# Altium footprint library pinhead.PCBLIB: 100 footprints (part 2 of 7)
Each footprint in its own frame and in the unit in brackets; x right, y up, seen from the top. Pads: shape width x height; smd on the part's side, far side on the other; paste and mask are expansions set on the pad; w line width, h text height; cw(c..) or ccw(c..) is an arc to the next point about the centre after c.
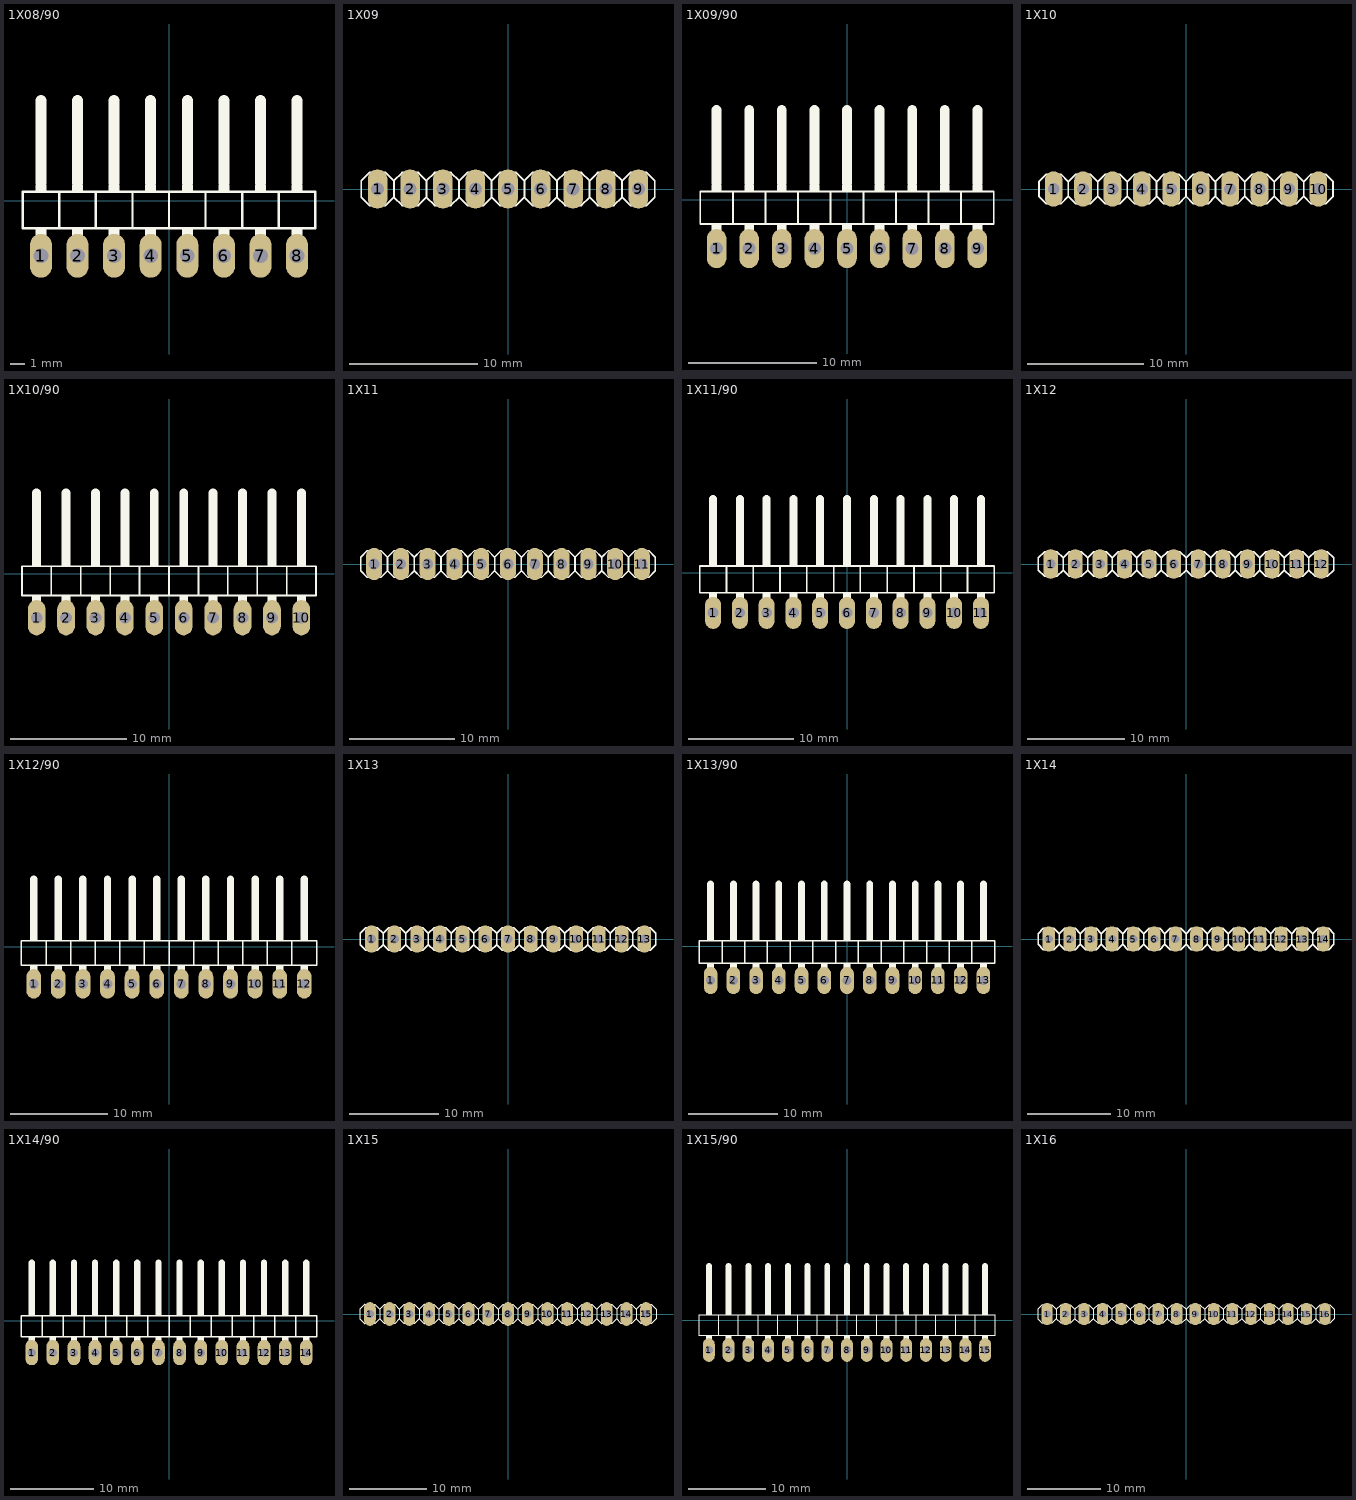
[diagram p1: the footprints below, top view; thin cyan lines are the x and y axes]

## 1X08/90 [mil]
pads (8):
  oval 60x120 hole 40: 1(-350,-150) 2(-250,-150) 3(-150,-150) 4(-50,-150) 5(50,-150) 6(150,-150) 7(250,-150) 8(350,-150)
Top Overlay:
  rectangle: -365,25 -335,45
  rectangle: -265,25 -235,45
  rectangle: -165,25 -135,45
  rectangle: -65,25 -35,45
  rectangle: 35,25 65,45
  rectangle: 135,25 165,45
  rectangle: 235,25 265,45
  rectangle: 335,25 365,45
  rectangle: -365,-115 -335,-75
  rectangle: -265,-115 -235,-75
  rectangle: -165,-115 -135,-75
  rectangle: -65,-115 -35,-75
  rectangle: 35,-115 65,-75
  rectangle: 135,-115 165,-75
  rectangle: 235,-115 265,-75
  rectangle: 335,-115 365,-75
  lines w6: -300,-75 -400,-75 -400,25 -300,25 ; -300,-75 -300,25 ; -300,-75 -200,-75 ; -300,25 -200,25 ; -200,-75 -200,25 ; -200,-75 -100,-75 ; -200,25 -100,25 ; -100,-75 -100,25 ; -100,-75 0,-75 ; -100,25 0,25 ; 0,-75 0,25 ; 0,-75 100,-75 ; 0,25 100,25 ; 100,-75 100,25 ; 100,-75 200,-75 ; 100,25 200,25 ; 200,-75 200,25 ; 200,-75 300,-75 ; 200,25 300,25 ; 300,-75 300,25 ; 300,-75 400,-75 400,25 300,25
  lines w30: -350,50 -350,275 ; -250,50 -250,275 ; -150,50 -150,275 ; -50,50 -50,275 ; 50,50 50,275 ; 150,50 150,275 ; 250,50 250,275 ; 350,50 350,275

## 1X09 [mil]
pads (9):
  oval 60x120 hole 40: 1(-400,0) 2(-300,0) 3(-200,0) 4(-100,0) 5(0,0) 6(100,0) 7(200,0) 8(300,0) 9(400,0)
Top Overlay:
  lines w6: -350,-25 -350,25 ; -350,-25 -375,-50 -425,-50 -450,-25 -450,25 -425,50 -375,50 -350,25 ; -350,-25 -325,-50 -275,-50 -250,-25 ; -350,25 -325,50 -275,50 -250,25 ; -250,-25 -225,-50 -175,-50 -150,-25 ; -250,-25 -250,25 ; -250,25 -225,50 -175,50 -150,25 ; -150,-25 -150,25 ; -150,-25 -125,-50 -75,-50 -50,-25 ; -150,25 -125,50 -75,50 -50,25 ; -50,-25 -50,25 ; -50,-25 -25,-50 25,-50 50,-25 ; -50,25 -25,50 25,50 50,25 ; 50,-25 75,-50 125,-50 150,-25 ; 50,-25 50,25 ; 50,25 75,50 125,50 150,25 ; 150,-25 150,25 ; 150,-25 175,-50 225,-50 250,-25 ; 150,25 175,50 225,50 250,25 ; 250,-25 250,25 ; 250,-25 275,-50 325,-50 350,-25 ; 250,25 275,50 325,50 350,25 ; 350,-25 350,25 ; 350,-25 375,-50 425,-50 450,-25 450,25 425,50 375,50 350,25
Mechanical 16:
  rectangle: 290,-10 310,10
  rectangle: 190,-10 210,10
  rectangle: 90,-10 110,10
  rectangle: -10,-10 10,10
  rectangle: -110,-10 -90,10
  rectangle: -210,-10 -190,10
  rectangle: -310,-10 -290,10
  rectangle: -410,-10 -390,10
  rectangle: 390,-10 410,10

## 1X09/90 [mil]
pads (9):
  oval 60x120 hole 40: 1(-400,-150) 2(-300,-150) 3(-200,-150) 4(-100,-150) 5(0,-150) 6(100,-150) 7(200,-150) 8(300,-150) 9(400,-150)
Top Overlay:
  rectangle: -415,25 -385,45
  rectangle: -315,25 -285,45
  rectangle: -215,25 -185,45
  rectangle: -115,25 -85,45
  rectangle: -15,25 15,45
  rectangle: 85,25 115,45
  rectangle: 185,25 215,45
  rectangle: 285,25 315,45
  rectangle: 385,25 415,45
  rectangle: -415,-115 -385,-75
  rectangle: -315,-115 -285,-75
  rectangle: -215,-115 -185,-75
  rectangle: -115,-115 -85,-75
  rectangle: -15,-115 15,-75
  rectangle: 85,-115 115,-75
  rectangle: 185,-115 215,-75
  rectangle: 285,-115 315,-75
  rectangle: 385,-115 415,-75
  lines w6: -350,-75 -450,-75 -450,25 -350,25 ; -350,-75 -350,25 ; -350,-75 -250,-75 ; -350,25 -250,25 ; -250,-75 -250,25 ; -250,-75 -150,-75 ; -250,25 -150,25 ; -150,-75 -150,25 ; -150,-75 -50,-75 ; -150,25 -50,25 ; -50,-75 -50,25 ; -50,-75 50,-75 ; -50,25 50,25 ; 50,-75 50,25 ; 50,-75 150,-75 ; 50,25 150,25 ; 150,-75 150,25 ; 150,-75 250,-75 ; 150,25 250,25 ; 250,-75 250,25 ; 250,-75 350,-75 ; 250,25 350,25 ; 350,-75 350,25 ; 350,-75 450,-75 450,25 350,25
  lines w30: -400,50 -400,275 ; -300,50 -300,275 ; -200,50 -200,275 ; -100,50 -100,275 ; 0,50 0,275 ; 100,50 100,275 ; 200,50 200,275 ; 300,50 300,275 ; 400,50 400,275

## 1X10 [mil]
pads (10):
  oval 60x120 hole 40: 1(-450,0) 2(-350,0) 3(-250,0) 4(-150,0) 5(-50,0) 6(50,0) 7(150,0) 8(250,0) 9(350,0) 10(450,0)
Top Overlay:
  lines w6: -400,-25 -400,25 ; -400,-25 -425,-50 -475,-50 -500,-25 -500,25 -475,50 -425,50 -400,25 ; -400,-25 -375,-50 -325,-50 -300,-25 ; -400,25 -375,50 -325,50 -300,25 ; -300,-25 -275,-50 -225,-50 -200,-25 ; -300,-25 -300,25 ; -300,25 -275,50 -225,50 -200,25 ; -200,-25 -200,25 ; -200,-25 -175,-50 -125,-50 -100,-25 ; -200,25 -175,50 -125,50 -100,25 ; -100,-25 -100,25 ; -100,-25 -75,-50 -25,-50 0,-25 ; -100,25 -75,50 -25,50 0,25 ; 0,-25 25,-50 75,-50 100,-25 ; 0,-25 0,25 ; 0,25 25,50 75,50 100,25 ; 100,-25 100,25 ; 100,-25 125,-50 175,-50 200,-25 ; 100,25 125,50 175,50 200,25 ; 200,-25 200,25 ; 200,-25 225,-50 275,-50 300,-25 ; 200,25 225,50 275,50 300,25 ; 300,-25 325,-50 375,-50 400,-25 ; 300,-25 300,25 ; 300,25 325,50 375,50 400,25 ; 400,-25 400,25 ; 400,-25 425,-50 475,-50 500,-25 500,25 475,50 425,50 400,25
Mechanical 16:
  rectangle: 340,-10 360,10
  rectangle: 240,-10 260,10
  rectangle: 140,-10 160,10
  rectangle: 40,-10 60,10
  rectangle: -60,-10 -40,10
  rectangle: -160,-10 -140,10
  rectangle: -260,-10 -240,10
  rectangle: -360,-10 -340,10
  rectangle: -460,-10 -440,10
  rectangle: 440,-10 460,10

## 1X10/90 [mil]
pads (10):
  oval 60x120 hole 40: 1(-450,-150) 2(-350,-150) 3(-250,-150) 4(-150,-150) 5(-50,-150) 6(50,-150) 7(150,-150) 8(250,-150) 9(350,-150) 10(450,-150)
Top Overlay:
  rectangle: -465,25 -435,45
  rectangle: -365,25 -335,45
  rectangle: -265,25 -235,45
  rectangle: -165,25 -135,45
  rectangle: -65,25 -35,45
  rectangle: 35,25 65,45
  rectangle: 135,25 165,45
  rectangle: 235,25 265,45
  rectangle: 335,25 365,45
  rectangle: 435,25 465,45
  rectangle: -465,-115 -435,-75
  rectangle: -365,-115 -335,-75
  rectangle: -265,-115 -235,-75
  rectangle: -165,-115 -135,-75
  rectangle: -65,-115 -35,-75
  rectangle: 35,-115 65,-75
  rectangle: 135,-115 165,-75
  rectangle: 235,-115 265,-75
  rectangle: 335,-115 365,-75
  rectangle: 435,-115 465,-75
  lines w6: -400,-75 -500,-75 -500,25 -400,25 ; -400,-75 -400,25 ; -400,-75 -300,-75 ; -400,25 -300,25 ; -300,-75 -300,25 ; -300,-75 -200,-75 ; -300,25 -200,25 ; -200,-75 -200,25 ; -200,-75 -100,-75 ; -200,25 -100,25 ; -100,-75 -100,25 ; -100,-75 0,-75 ; -100,25 0,25 ; 0,-75 0,25 ; 0,-75 100,-75 ; 0,25 100,25 ; 100,-75 100,25 ; 100,-75 200,-75 ; 100,25 200,25 ; 200,-75 200,25 ; 200,-75 300,-75 ; 200,25 300,25 ; 300,-75 300,25 ; 300,-75 400,-75 ; 300,25 400,25 ; 400,-75 400,25 ; 400,-75 500,-75 500,25 400,25
  lines w30: -450,50 -450,275 ; -350,50 -350,275 ; -250,50 -250,275 ; -150,50 -150,275 ; -50,50 -50,275 ; 50,50 50,275 ; 150,50 150,275 ; 250,50 250,275 ; 350,50 350,275 ; 450,50 450,275

## 1X11 [mil]
pads (11):
  oval 60x120 hole 40: 1(-500,0) 2(-400,0) 3(-300,0) 4(-200,0) 5(-100,0) 6(0,0) 7(100,0) 8(200,0) 9(300,0) 10(400,0) 11(500,0)
Top Overlay:
  lines w6: -450,-25 -450,25 ; -450,-25 -475,-50 -525,-50 -550,-25 -550,25 -525,50 -475,50 -450,25 ; -450,-25 -425,-50 -375,-50 -350,-25 ; -450,25 -425,50 -375,50 -350,25 ; -350,-25 -325,-50 -275,-50 -250,-25 ; -350,-25 -350,25 ; -350,25 -325,50 -275,50 -250,25 ; -250,-25 -250,25 ; -250,-25 -225,-50 -175,-50 -150,-25 ; -250,25 -225,50 -175,50 -150,25 ; -150,-25 -150,25 ; -150,-25 -125,-50 -75,-50 -50,-25 ; -150,25 -125,50 -75,50 -50,25 ; -50,-25 -25,-50 25,-50 50,-25 ; -50,-25 -50,25 ; -50,25 -25,50 25,50 50,25 ; 50,-25 50,25 ; 50,-25 75,-50 125,-50 150,-25 ; 50,25 75,50 125,50 150,25 ; 150,-25 150,25 ; 150,-25 175,-50 225,-50 250,-25 ; 150,25 175,50 225,50 250,25 ; 250,-25 275,-50 325,-50 350,-25 ; 250,-25 250,25 ; 250,25 275,50 325,50 350,25 ; 350,-25 350,25 ; 350,-25 375,-50 425,-50 450,-25 ; 350,25 375,50 425,50 450,25 ; 450,-25 450,25 ; 450,-25 475,-50 525,-50 550,-25 550,25 525,50 475,50 450,25
Mechanical 16:
  rectangle: 390,-10 410,10
  rectangle: 290,-10 310,10
  rectangle: 190,-10 210,10
  rectangle: 90,-10 110,10
  rectangle: -10,-10 10,10
  rectangle: -110,-10 -90,10
  rectangle: -210,-10 -190,10
  rectangle: -310,-10 -290,10
  rectangle: -410,-10 -390,10
  rectangle: -510,-10 -490,10
  rectangle: 490,-10 510,10

## 1X11/90 [mil]
pads (11):
  oval 60x120 hole 40: 1(-500,-150) 2(-400,-150) 3(-300,-150) 4(-200,-150) 5(-100,-150) 6(0,-150) 7(100,-150) 8(200,-150) 9(300,-150) 10(400,-150) 11(500,-150)
Top Overlay:
  rectangle: -515,25 -485,45
  rectangle: -415,25 -385,45
  rectangle: -315,25 -285,45
  rectangle: -215,25 -185,45
  rectangle: -115,25 -85,45
  rectangle: -15,25 15,45
  rectangle: 85,25 115,45
  rectangle: 185,25 215,45
  rectangle: 285,25 315,45
  rectangle: 385,25 415,45
  rectangle: 485,25 515,45
  rectangle: -515,-115 -485,-75
  rectangle: -415,-115 -385,-75
  rectangle: -315,-115 -285,-75
  rectangle: -215,-115 -185,-75
  rectangle: -115,-115 -85,-75
  rectangle: -15,-115 15,-75
  rectangle: 85,-115 115,-75
  rectangle: 185,-115 215,-75
  rectangle: 285,-115 315,-75
  rectangle: 385,-115 415,-75
  rectangle: 485,-115 515,-75
  lines w6: -450,-75 -550,-75 -550,25 -450,25 ; -450,-75 -450,25 ; -450,-75 -350,-75 ; -450,25 -350,25 ; -350,-75 -350,25 ; -350,-75 -250,-75 ; -350,25 -250,25 ; -250,-75 -250,25 ; -250,-75 -150,-75 ; -250,25 -150,25 ; -150,-75 -150,25 ; -150,-75 -50,-75 ; -150,25 -50,25 ; -50,-75 -50,25 ; -50,-75 50,-75 ; -50,25 50,25 ; 50,-75 50,25 ; 50,-75 150,-75 ; 50,25 150,25 ; 150,-75 150,25 ; 150,-75 250,-75 ; 150,25 250,25 ; 250,-75 250,25 ; 250,-75 350,-75 ; 250,25 350,25 ; 350,-75 350,25 ; 350,-75 450,-75 ; 350,25 450,25 ; 450,-75 450,25 ; 450,-75 550,-75 550,25 450,25
  lines w30: -500,50 -500,275 ; -400,50 -400,275 ; -300,50 -300,275 ; -200,50 -200,275 ; -100,50 -100,275 ; 0,50 0,275 ; 100,50 100,275 ; 200,50 200,275 ; 300,50 300,275 ; 400,50 400,275 ; 500,50 500,275

## 1X12 [mil]
pads (12):
  oval 60x120 hole 40: 1(-550,0) 2(-450,0) 3(-350,0) 4(-250,0) 5(-150,0) 6(-50,0) 7(50,0) 8(150,0) 9(250,0) 10(350,0) 11(450,0) 12(550,0)
Top Overlay:
  lines w6: -500,-25 -500,25 ; -500,-25 -525,-50 -575,-50 -600,-25 -600,25 -575,50 -525,50 -500,25 ; -500,-25 -475,-50 -425,-50 -400,-25 ; -500,25 -475,50 -425,50 -400,25 ; -400,-25 -375,-50 -325,-50 -300,-25 ; -400,-25 -400,25 ; -400,25 -375,50 -325,50 -300,25 ; -300,-25 -300,25 ; -300,-25 -275,-50 -225,-50 -200,-25 ; -300,25 -275,50 -225,50 -200,25 ; -200,-25 -200,25 ; -200,-25 -175,-50 -125,-50 -100,-25 ; -200,25 -175,50 -125,50 -100,25 ; -100,-25 -75,-50 -25,-50 0,-25 ; -100,-25 -100,25 ; -100,25 -75,50 -25,50 0,25 ; 0,-25 0,25 ; 0,-25 25,-50 75,-50 100,-25 ; 0,25 25,50 75,50 100,25 ; 100,-25 100,25 ; 100,-25 125,-50 175,-50 200,-25 ; 100,25 125,50 175,50 200,25 ; 200,-25 225,-50 275,-50 300,-25 ; 200,-25 200,25 ; 200,25 225,50 275,50 300,25 ; 300,-25 300,25 ; 300,-25 325,-50 375,-50 400,-25 ; 300,25 325,50 375,50 400,25 ; 400,-25 400,25 ; 400,-25 425,-50 475,-50 500,-25 ; 400,25 425,50 475,50 500,25 ; 500,-25 500,25 ; 500,-25 525,-50 575,-50 600,-25 600,25 575,50 525,50 500,25
Mechanical 16:
  rectangle: 440,-10 460,10
  rectangle: 340,-10 360,10
  rectangle: 240,-10 260,10
  rectangle: 140,-10 160,10
  rectangle: 40,-10 60,10
  rectangle: -60,-10 -40,10
  rectangle: -160,-10 -140,10
  rectangle: -260,-10 -240,10
  rectangle: -360,-10 -340,10
  rectangle: -460,-10 -440,10
  rectangle: -560,-10 -540,10
  rectangle: 540,-10 560,10

## 1X12/90 [mil]
pads (12):
  oval 60x120 hole 40: 1(-550,-150) 2(-450,-150) 3(-350,-150) 4(-250,-150) 5(-150,-150) 6(-50,-150) 7(50,-150) 8(150,-150) 9(250,-150) 10(350,-150) 11(450,-150) 12(550,-150)
Top Overlay:
  rectangle: -565,25 -535,45
  rectangle: -465,25 -435,45
  rectangle: -365,25 -335,45
  rectangle: -265,25 -235,45
  rectangle: -165,25 -135,45
  rectangle: -65,25 -35,45
  rectangle: 35,25 65,45
  rectangle: 135,25 165,45
  rectangle: 235,25 265,45
  rectangle: 335,25 365,45
  rectangle: 435,25 465,45
  rectangle: 535,25 565,45
  rectangle: -565,-115 -535,-75
  rectangle: -465,-115 -435,-75
  rectangle: -365,-115 -335,-75
  rectangle: -265,-115 -235,-75
  rectangle: -165,-115 -135,-75
  rectangle: -65,-115 -35,-75
  rectangle: 35,-115 65,-75
  rectangle: 135,-115 165,-75
  rectangle: 235,-115 265,-75
  rectangle: 335,-115 365,-75
  rectangle: 435,-115 465,-75
  rectangle: 535,-115 565,-75
  lines w6: -500,-75 -600,-75 -600,25 -500,25 ; -500,-75 -500,25 ; -500,-75 -400,-75 ; -500,25 -400,25 ; -400,-75 -400,25 ; -400,-75 -300,-75 ; -400,25 -300,25 ; -300,-75 -300,25 ; -300,-75 -200,-75 ; -300,25 -200,25 ; -200,-75 -200,25 ; -200,-75 -100,-75 ; -200,25 -100,25 ; -100,-75 -100,25 ; -100,-75 0,-75 ; -100,25 0,25 ; 0,-75 0,25 ; 0,-75 100,-75 ; 0,25 100,25 ; 100,-75 100,25 ; 100,-75 200,-75 ; 100,25 200,25 ; 200,-75 200,25 ; 200,-75 300,-75 ; 200,25 300,25 ; 300,-75 300,25 ; 300,-75 400,-75 ; 300,25 400,25 ; 400,-75 400,25 ; 400,-75 500,-75 ; 400,25 500,25 ; 500,-75 500,25 ; 500,-75 600,-75 600,25 500,25
  lines w30: -550,50 -550,275 ; -450,50 -450,275 ; -350,50 -350,275 ; -250,50 -250,275 ; -150,50 -150,275 ; -50,50 -50,275 ; 50,50 50,275 ; 150,50 150,275 ; 250,50 250,275 ; 350,50 350,275 ; 450,50 450,275 ; 550,50 550,275

## 1X13 [mil]
pads (13):
  oval 60x120 hole 40: 1(-600,0) 2(-500,0) 3(-400,0) 4(-300,0) 5(-200,0) 6(-100,0) 7(0,0) 8(100,0) 9(200,0) 10(300,0) 11(400,0) 12(500,0) 13(600,0)
Top Overlay:
  lines w6: -550,-25 -550,25 ; -550,-25 -575,-50 -625,-50 -650,-25 -650,25 -625,50 -575,50 -550,25 ; -550,-25 -525,-50 -475,-50 -450,-25 ; -550,25 -525,50 -475,50 -450,25 ; -450,-25 -425,-50 -375,-50 -350,-25 ; -450,-25 -450,25 ; -450,25 -425,50 -375,50 -350,25 ; -350,-25 -350,25 ; -350,-25 -325,-50 -275,-50 -250,-25 ; -350,25 -325,50 -275,50 -250,25 ; -250,-25 -250,25 ; -250,-25 -225,-50 -175,-50 -150,-25 ; -250,25 -225,50 -175,50 -150,25 ; -150,-25 -125,-50 -75,-50 -50,-25 ; -150,-25 -150,25 ; -150,25 -125,50 -75,50 -50,25 ; -50,-25 -50,25 ; -50,-25 -25,-50 25,-50 50,-25 ; -50,25 -25,50 25,50 50,25 ; 50,-25 50,25 ; 50,-25 75,-50 125,-50 150,-25 ; 50,25 75,50 125,50 150,25 ; 150,-25 175,-50 225,-50 250,-25 ; 150,-25 150,25 ; 150,25 175,50 225,50 250,25 ; 250,-25 250,25 ; 250,-25 275,-50 325,-50 350,-25 ; 250,25 275,50 325,50 350,25 ; 350,-25 350,25 ; 350,-25 375,-50 425,-50 450,-25 ; 350,25 375,50 425,50 450,25 ; 450,-25 475,-50 525,-50 550,-25 ; 450,-25 450,25 ; 450,25 475,50 525,50 550,25 ; 550,-25 550,25 ; 550,-25 575,-50 625,-50 650,-25 650,25 625,50 575,50 550,25
Mechanical 16:
  rectangle: 490,-10 510,10
  rectangle: 390,-10 410,10
  rectangle: 290,-10 310,10
  rectangle: 190,-10 210,10
  rectangle: 90,-10 110,10
  rectangle: -10,-10 10,10
  rectangle: -110,-10 -90,10
  rectangle: -210,-10 -190,10
  rectangle: -310,-10 -290,10
  rectangle: -410,-10 -390,10
  rectangle: -510,-10 -490,10
  rectangle: -610,-10 -590,10
  rectangle: 590,-10 610,10

## 1X13/90 [mil]
pads (13):
  oval 60x120 hole 40: 1(-600,-150) 2(-500,-150) 3(-400,-150) 4(-300,-150) 5(-200,-150) 6(-100,-150) 7(0,-150) 8(100,-150) 9(200,-150) 10(300,-150) 11(400,-150) 12(500,-150) 13(600,-150)
Top Overlay:
  rectangle: -615,25 -585,45
  rectangle: -515,25 -485,45
  rectangle: -415,25 -385,45
  rectangle: -315,25 -285,45
  rectangle: -215,25 -185,45
  rectangle: -115,25 -85,45
  rectangle: -15,25 15,45
  rectangle: 85,25 115,45
  rectangle: 185,25 215,45
  rectangle: 285,25 315,45
  rectangle: 385,25 415,45
  rectangle: 485,25 515,45
  rectangle: 585,25 615,45
  rectangle: -615,-115 -585,-75
  rectangle: -515,-115 -485,-75
  rectangle: -415,-115 -385,-75
  rectangle: -315,-115 -285,-75
  rectangle: -215,-115 -185,-75
  rectangle: -115,-115 -85,-75
  rectangle: -15,-115 15,-75
  rectangle: 85,-115 115,-75
  rectangle: 185,-115 215,-75
  rectangle: 285,-115 315,-75
  rectangle: 385,-115 415,-75
  rectangle: 485,-115 515,-75
  rectangle: 585,-115 615,-75
  lines w6: -550,-75 -650,-75 -650,25 -550,25 ; -550,-75 -550,25 ; -550,-75 -450,-75 ; -550,25 -450,25 ; -450,-75 -450,25 ; -450,-75 -350,-75 ; -450,25 -350,25 ; -350,-75 -350,25 ; -350,-75 -250,-75 ; -350,25 -250,25 ; -250,-75 -250,25 ; -250,-75 -150,-75 ; -250,25 -150,25 ; -150,-75 -150,25 ; -150,-75 -50,-75 ; -150,25 -50,25 ; -50,-75 -50,25 ; -50,-75 50,-75 ; -50,25 50,25 ; 50,-75 50,25 ; 50,-75 150,-75 ; 50,25 150,25 ; 150,-75 150,25 ; 150,-75 250,-75 ; 150,25 250,25 ; 250,-75 250,25 ; 250,-75 350,-75 ; 250,25 350,25 ; 350,-75 350,25 ; 350,-75 450,-75 ; 350,25 450,25 ; 450,-75 450,25 ; 450,-75 550,-75 ; 450,25 550,25 ; 550,-75 550,25 ; 550,-75 650,-75 650,25 550,25
  lines w30: -600,50 -600,275 ; -500,50 -500,275 ; -400,50 -400,275 ; -300,50 -300,275 ; -200,50 -200,275 ; -100,50 -100,275 ; 0,50 0,275 ; 100,50 100,275 ; 200,50 200,275 ; 300,50 300,275 ; 400,50 400,275 ; 500,50 500,275 ; 600,50 600,275

## 1X14 [mil]
pads (14):
  oval 60x120 hole 40: 1(-650,0) 2(-550,0) 3(-450,0) 4(-350,0) 5(-250,0) 6(-150,0) 7(-50,0) 8(50,0) 9(150,0) 10(250,0) 11(350,0) 12(450,0) 13(550,0) 14(650,0)
Top Overlay:
  lines w6: -600,-25 -600,25 ; -600,-25 -625,-50 -675,-50 -700,-25 -700,25 -675,50 -625,50 -600,25 ; -600,-25 -575,-50 -525,-50 -500,-25 ; -600,25 -575,50 -525,50 -500,25 ; -500,-25 -475,-50 -425,-50 -400,-25 ; -500,-25 -500,25 ; -500,25 -475,50 -425,50 -400,25 ; -400,-25 -400,25 ; -400,-25 -375,-50 -325,-50 -300,-25 ; -400,25 -375,50 -325,50 -300,25 ; -300,-25 -300,25 ; -300,-25 -275,-50 -225,-50 -200,-25 ; -300,25 -275,50 -225,50 -200,25 ; -200,-25 -175,-50 -125,-50 -100,-25 ; -200,-25 -200,25 ; -200,25 -175,50 -125,50 -100,25 ; -100,-25 -100,25 ; -100,-25 -75,-50 -25,-50 0,-25 ; -100,25 -75,50 -25,50 0,25 ; 0,-25 0,25 ; 0,-25 25,-50 75,-50 100,-25 ; 0,25 25,50 75,50 100,25 ; 100,-25 125,-50 175,-50 200,-25 ; 100,-25 100,25 ; 100,25 125,50 175,50 200,25 ; 200,-25 200,25 ; 200,-25 225,-50 275,-50 300,-25 ; 200,25 225,50 275,50 300,25 ; 300,-25 300,25 ; 300,-25 325,-50 375,-50 400,-25 ; 300,25 325,50 375,50 400,25 ; 400,-25 425,-50 475,-50 500,-25 ; 400,-25 400,25 ; 400,25 425,50 475,50 500,25 ; 500,-25 500,25 ; 500,-25 525,-50 575,-50 600,-25 ; 500,25 525,50 575,50 600,25 ; 600,-25 600,25 ; 600,-25 625,-50 675,-50 700,-25 700,25 675,50 625,50 600,25
Mechanical 16:
  rectangle: 540,-10 560,10
  rectangle: 440,-10 460,10
  rectangle: 340,-10 360,10
  rectangle: 240,-10 260,10
  rectangle: 140,-10 160,10
  rectangle: 40,-10 60,10
  rectangle: -60,-10 -40,10
  rectangle: -160,-10 -140,10
  rectangle: -260,-10 -240,10
  rectangle: -360,-10 -340,10
  rectangle: -460,-10 -440,10
  rectangle: -560,-10 -540,10
  rectangle: -660,-10 -640,10
  rectangle: 640,-10 660,10

## 1X14/90 [mil]
pads (14):
  oval 60x120 hole 40: 1(-650,-150) 2(-550,-150) 3(-450,-150) 4(-350,-150) 5(-250,-150) 6(-150,-150) 7(-50,-150) 8(50,-150) 9(150,-150) 10(250,-150) 11(350,-150) 12(450,-150) 13(550,-150) 14(650,-150)
Top Overlay:
  rectangle: -665,25 -635,45
  rectangle: -565,25 -535,45
  rectangle: -465,25 -435,45
  rectangle: -365,25 -335,45
  rectangle: -265,25 -235,45
  rectangle: -165,25 -135,45
  rectangle: -65,25 -35,45
  rectangle: 35,25 65,45
  rectangle: 135,25 165,45
  rectangle: 235,25 265,45
  rectangle: 335,25 365,45
  rectangle: 435,25 465,45
  rectangle: 535,25 565,45
  rectangle: 635,25 665,45
  rectangle: -665,-115 -635,-75
  rectangle: -565,-115 -535,-75
  rectangle: -465,-115 -435,-75
  rectangle: -365,-115 -335,-75
  rectangle: -265,-115 -235,-75
  rectangle: -165,-115 -135,-75
  rectangle: -65,-115 -35,-75
  rectangle: 35,-115 65,-75
  rectangle: 135,-115 165,-75
  rectangle: 235,-115 265,-75
  rectangle: 335,-115 365,-75
  rectangle: 435,-115 465,-75
  rectangle: 535,-115 565,-75
  rectangle: 635,-115 665,-75
  lines w6: -600,-75 -700,-75 -700,25 -600,25 ; -600,-75 -600,25 ; -600,-75 -500,-75 ; -600,25 -500,25 ; -500,-75 -500,25 ; -500,-75 -400,-75 ; -500,25 -400,25 ; -400,-75 -400,25 ; -400,-75 -300,-75 ; -400,25 -300,25 ; -300,-75 -300,25 ; -300,-75 -200,-75 ; -300,25 -200,25 ; -200,-75 -200,25 ; -200,-75 -100,-75 ; -200,25 -100,25 ; -100,-75 -100,25 ; -100,-75 0,-75 ; -100,25 0,25 ; 0,-75 0,25 ; 0,-75 100,-75 ; 0,25 100,25 ; 100,-75 100,25 ; 100,-75 200,-75 ; 100,25 200,25 ; 200,-75 200,25 ; 200,-75 300,-75 ; 200,25 300,25 ; 300,-75 300,25 ; 300,-75 400,-75 ; 300,25 400,25 ; 400,-75 400,25 ; 400,-75 500,-75 ; 400,25 500,25 ; 500,-75 500,25 ; 500,-75 600,-75 ; 500,25 600,25 ; 600,-75 600,25 ; 600,-75 700,-75 700,25 600,25
  lines w30: -650,50 -650,275 ; -550,50 -550,275 ; -450,50 -450,275 ; -350,50 -350,275 ; -250,50 -250,275 ; -150,50 -150,275 ; -50,50 -50,275 ; 50,50 50,275 ; 150,50 150,275 ; 250,50 250,275 ; 350,50 350,275 ; 450,50 450,275 ; 550,50 550,275 ; 650,50 650,275

## 1X15 [mil]
pads (15):
  oval 60x120 hole 40: 1(-700,0) 2(-600,0) 3(-500,0) 4(-400,0) 5(-300,0) 6(-200,0) 7(-100,0) 8(0,0) 9(100,0) 10(200,0) 11(300,0) 12(400,0) 13(500,0) 14(600,0) 15(700,0)
Top Overlay:
  lines w6: -650,-25 -650,25 ; -650,-25 -675,-50 -725,-50 -750,-25 -750,25 -725,50 -675,50 -650,25 ; -650,-25 -625,-50 -575,-50 -550,-25 ; -650,25 -625,50 -575,50 -550,25 ; -550,-25 -525,-50 -475,-50 -450,-25 ; -550,-25 -550,25 ; -550,25 -525,50 -475,50 -450,25 ; -450,-25 -450,25 ; -450,-25 -425,-50 -375,-50 -350,-25 ; -450,25 -425,50 -375,50 -350,25 ; -350,-25 -350,25 ; -350,-25 -325,-50 -275,-50 -250,-25 ; -350,25 -325,50 -275,50 -250,25 ; -250,-25 -225,-50 -175,-50 -150,-25 ; -250,-25 -250,25 ; -250,25 -225,50 -175,50 -150,25 ; -150,-25 -150,25 ; -150,-25 -125,-50 -75,-50 -50,-25 ; -150,25 -125,50 -75,50 -50,25 ; -50,-25 -50,25 ; -50,-25 -25,-50 25,-50 50,-25 ; -50,25 -25,50 25,50 50,25 ; 50,-25 75,-50 125,-50 150,-25 ; 50,-25 50,25 ; 50,25 75,50 125,50 150,25 ; 150,-25 150,25 ; 150,-25 175,-50 225,-50 250,-25 ; 150,25 175,50 225,50 250,25 ; 250,-25 250,25 ; 250,-25 275,-50 325,-50 350,-25 ; 250,25 275,50 325,50 350,25 ; 350,-25 375,-50 425,-50 450,-25 ; 350,-25 350,25 ; 350,25 375,50 425,50 450,25 ; 450,-25 450,25 ; 450,-25 475,-50 525,-50 550,-25 ; 450,25 475,50 525,50 550,25 ; 550,-25 550,25 ; 550,-25 575,-50 625,-50 650,-25 ; 550,25 575,50 625,50 650,25 ; 650,-25 650,25 ; 650,-25 675,-50 725,-50 750,-25 750,25 725,50 675,50 650,25
Mechanical 16:
  rectangle: 590,-10 610,10
  rectangle: 490,-10 510,10
  rectangle: 390,-10 410,10
  rectangle: 290,-10 310,10
  rectangle: 190,-10 210,10
  rectangle: 90,-10 110,10
  rectangle: -10,-10 10,10
  rectangle: -110,-10 -90,10
  rectangle: -210,-10 -190,10
  rectangle: -310,-10 -290,10
  rectangle: -410,-10 -390,10
  rectangle: -510,-10 -490,10
  rectangle: -610,-10 -590,10
  rectangle: -710,-10 -690,10
  rectangle: 690,-10 710,10

## 1X15/90 [mil]
pads (15):
  oval 60x120 hole 40: 1(-700,-150) 2(-600,-150) 3(-500,-150) 4(-400,-150) 5(-300,-150) 6(-200,-150) 7(-100,-150) 8(0,-150) 9(100,-150) 10(200,-150) 11(300,-150) 12(400,-150) 13(500,-150) 14(600,-150) 15(700,-150)
Top Overlay:
  rectangle: -715,25 -685,45
  rectangle: -615,25 -585,45
  rectangle: -515,25 -485,45
  rectangle: -415,25 -385,45
  rectangle: -315,25 -285,45
  rectangle: -215,25 -185,45
  rectangle: -115,25 -85,45
  rectangle: -15,25 15,45
  rectangle: 85,25 115,45
  rectangle: 185,25 215,45
  rectangle: 285,25 315,45
  rectangle: 385,25 415,45
  rectangle: 485,25 515,45
  rectangle: 585,25 615,45
  rectangle: 685,25 715,45
  rectangle: -715,-115 -685,-75
  rectangle: -615,-115 -585,-75
  rectangle: -515,-115 -485,-75
  rectangle: -415,-115 -385,-75
  rectangle: -315,-115 -285,-75
  rectangle: -215,-115 -185,-75
  rectangle: -115,-115 -85,-75
  rectangle: -15,-115 15,-75
  rectangle: 85,-115 115,-75
  rectangle: 185,-115 215,-75
  rectangle: 285,-115 315,-75
  rectangle: 385,-115 415,-75
  rectangle: 485,-115 515,-75
  rectangle: 585,-115 615,-75
  rectangle: 685,-115 715,-75
  lines w6: -650,-75 -750,-75 -750,25 -650,25 ; -650,-75 -650,25 ; -650,-75 -550,-75 ; -650,25 -550,25 ; -550,-75 -550,25 ; -550,-75 -450,-75 ; -550,25 -450,25 ; -450,-75 -450,25 ; -450,-75 -350,-75 ; -450,25 -350,25 ; -350,-75 -350,25 ; -350,-75 -250,-75 ; -350,25 -250,25 ; -250,-75 -250,25 ; -250,-75 -150,-75 ; -250,25 -150,25 ; -150,-75 -150,25 ; -150,-75 -50,-75 ; -150,25 -50,25 ; -50,-75 -50,25 ; -50,-75 50,-75 ; -50,25 50,25 ; 50,-75 50,25 ; 50,-75 150,-75 ; 50,25 150,25 ; 150,-75 150,25 ; 150,-75 250,-75 ; 150,25 250,25 ; 250,-75 250,25 ; 250,-75 350,-75 ; 250,25 350,25 ; 350,-75 350,25 ; 350,-75 450,-75 ; 350,25 450,25 ; 450,-75 450,25 ; 450,-75 550,-75 ; 450,25 550,25 ; 550,-75 550,25 ; 550,-75 650,-75 ; 550,25 650,25 ; 650,-75 650,25 ; 650,-75 750,-75 750,25 650,25
  lines w30: -700,50 -700,275 ; -600,50 -600,275 ; -500,50 -500,275 ; -400,50 -400,275 ; -300,50 -300,275 ; -200,50 -200,275 ; -100,50 -100,275 ; 0,50 0,275 ; 100,50 100,275 ; 200,50 200,275 ; 300,50 300,275 ; 400,50 400,275 ; 500,50 500,275 ; 600,50 600,275 ; 700,50 700,275

## 1X16 [mil]
pads (16):
  oval 60x120 hole 40: 1(-750,0) 2(-650,0) 3(-550,0) 4(-450,0) 5(-350,0) 6(-250,0) 7(-150,0) 8(-50,0) 9(50,0) 10(150,0) 11(250,0) 12(350,0) 13(450,0) 14(550,0) 15(650,0) 16(750,0)
Top Overlay:
  lines w6: -700,-25 -700,25 ; -700,-25 -725,-50 -775,-50 -800,-25 -800,25 -775,50 -725,50 -700,25 ; -700,-25 -675,-50 -625,-50 -600,-25 ; -700,25 -675,50 -625,50 -600,25 ; -600,-25 -575,-50 -525,-50 -500,-25 ; -600,-25 -600,25 ; -600,25 -575,50 -525,50 -500,25 ; -500,-25 -500,25 ; -500,-25 -475,-50 -425,-50 -400,-25 ; -500,25 -475,50 -425,50 -400,25 ; -400,-25 -400,25 ; -400,-25 -375,-50 -325,-50 -300,-25 ; -400,25 -375,50 -325,50 -300,25 ; -300,-25 -275,-50 -225,-50 -200,-25 ; -300,-25 -300,25 ; -300,25 -275,50 -225,50 -200,25 ; -200,-25 -200,25 ; -200,-25 -175,-50 -125,-50 -100,-25 ; -200,25 -175,50 -125,50 -100,25 ; -100,-25 -100,25 ; -100,-25 -75,-50 -25,-50 0,-25 ; -100,25 -75,50 -25,50 0,25 ; 0,-25 25,-50 75,-50 100,-25 ; 0,-25 0,25 ; 0,25 25,50 75,50 100,25 ; 100,-25 100,25 ; 100,-25 125,-50 175,-50 200,-25 ; 100,25 125,50 175,50 200,25 ; 200,-25 200,25 ; 200,-25 225,-50 275,-50 300,-25 ; 200,25 225,50 275,50 300,25 ; 300,-25 325,-50 375,-50 400,-25 ; 300,-25 300,25 ; 300,25 325,50 375,50 400,25 ; 400,-25 400,25 ; 400,-25 425,-50 475,-50 500,-25 ; 400,25 425,50 475,50 500,25 ; 500,-25 500,25 ; 500,-25 525,-50 575,-50 600,-25 ; 500,25 525,50 575,50 600,25 ; 600,-25 625,-50 675,-50 700,-25 ; 600,-25 600,25 ; 600,25 625,50 675,50 700,25 ; 700,-25 700,25 ; 700,-25 725,-50 775,-50 800,-25 800,25 775,50 725,50 700,25
Mechanical 16:
  rectangle: 640,-10 660,10
  rectangle: 540,-10 560,10
  rectangle: 440,-10 460,10
  rectangle: 340,-10 360,10
  rectangle: 240,-10 260,10
  rectangle: 140,-10 160,10
  rectangle: 40,-10 60,10
  rectangle: -60,-10 -40,10
  rectangle: -160,-10 -140,10
  rectangle: -260,-10 -240,10
  rectangle: -360,-10 -340,10
  rectangle: -460,-10 -440,10
  rectangle: -560,-10 -540,10
  rectangle: -660,-10 -640,10
  rectangle: -760,-10 -740,10
  rectangle: 740,-10 760,10